# Altium integrated library Diodes - TVS.IntLib: 5379 symbols (part 64 of 122)
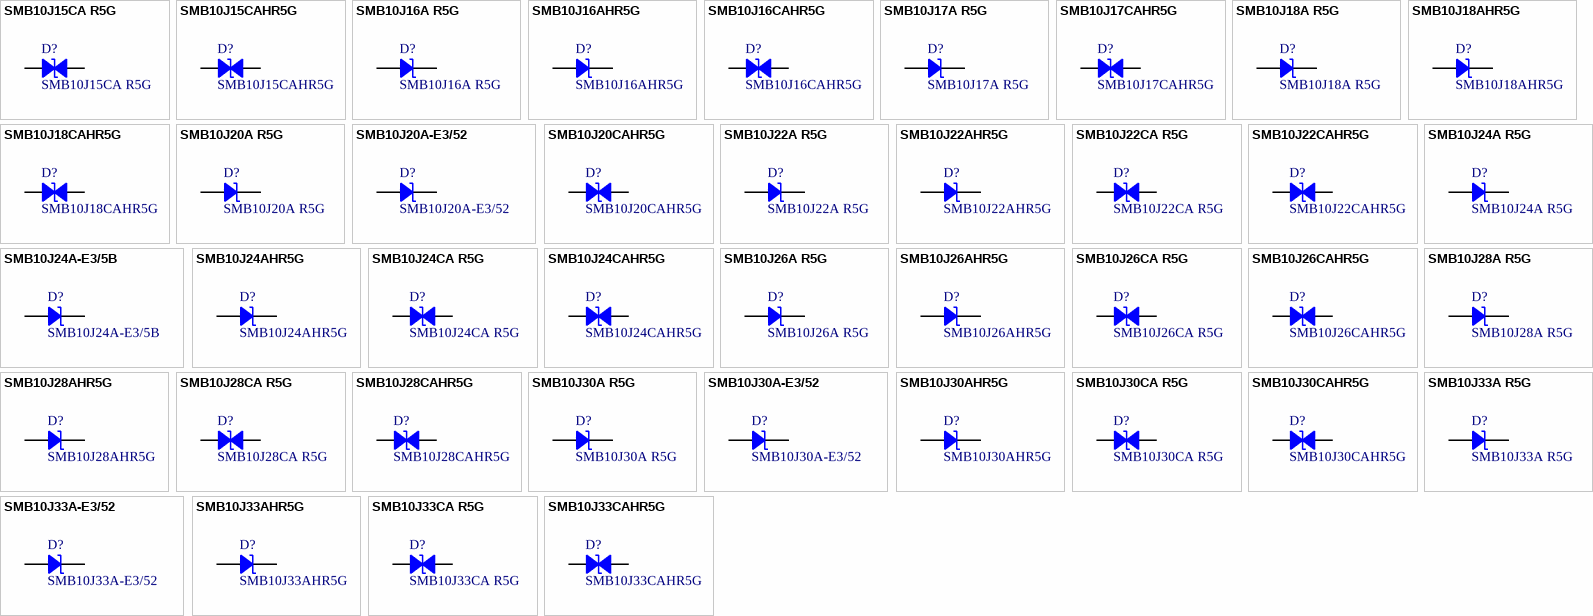
[diagram p197: symbols SMB10J15CA R5G to SMB10J33CAHR5G]

## SMB10J26AHR5G
designator D?
TVS DIODE 26V 42.1V DO214AA; Manufacturer: Taiwan Semiconductor Corporation; Current - Peak Pulse (10/1000µs): 23.8A; Power Line Protection: No; Power - Peak Pulse: 1000W (1kW); Type: Zener; Unidirectional Channels: 1; Voltage - Breakdown (Min): 28.9V; Part Number: SMB10J26AHR5G; Applications: Automotive; ComponentLink1Description: Datasheet; ComponentLink1URL: https://www.taiwansemi.com/products/datasheet/SMB10J%20SERIES_A1511.pdf; ComponentLink2Description: DigiKey Link; ComponentLink2URL: http://digikey.com/product-detail/en/taiwan-semiconductor-corporation/SMB10J26AHR5G/SMB10J26AHR5GCT-ND/7358979; LastUpdated: 9/2/2020 1:19:51 AM; Lifecycle Status: Active; Minimum Order: 1; Mounting Type: Surface Mount; Operating Temperature: -55°C ~ 175°C (TJ); Package / Case: DO-214AA, SMB; Packaging: TapeAndReel; PartId: 11398; Part Status: Active; Price: 0.27; Series: Automotive, AEC-Q101, SMB10J; Supplier 1: DigiKey; Supplier Part Number 1: SMB10J26AHR5GCT-ND; Supplier Device Package: DO-214AA (SMB); Voltage - Clamping (Max) @ Ipp: 42.1V; Voltage - Reverse Standoff (Typ): 26V
footprint DO214AA SMB
pins: 1, 2

## SMB10J26CA R5G
designator D?
TVS DIODE 26V 42.1V DO214AA; Manufacturer: Taiwan Semiconductor Corporation; Bidirectional Channels: 1; Current - Peak Pulse (10/1000µs): 23.8A; Power Line Protection: No; Power - Peak Pulse: 1000W (1kW); Type: Zener; Voltage - Breakdown (Min): 28.9V; Part Number: SMB10J26CA R5G; Applications: General Purpose; ComponentLink1Description: Datasheet; ComponentLink1URL: https://www.taiwansemi.com/products/datasheet/SMB10J%20SERIES_A1511.pdf; ComponentLink2Description: DigiKey Link; ComponentLink2URL: http://digikey.com/product-detail/en/taiwan-semiconductor-corporation/SMB10J26CA-R5G/SMB10J26CAR5GCT-ND/7358982; LastUpdated: 9/2/2020 1:28:18 AM; Lifecycle Status: Active; Minimum Order: 1; Mounting Type: Surface Mount; Operating Temperature: -55°C ~ 175°C (TJ); Package / Case: DO-214AA, SMB; Packaging: TapeAndReel; PartId: 9179; Part Status: Active; Price: 0.30; Series: SMB10J; Supplier 1: DigiKey; Supplier Part Number 1: SMB10J26CAR5GCT-ND; Supplier Device Package: DO-214AA (SMB); Voltage - Clamping (Max) @ Ipp: 42.1V; Voltage - Reverse Standoff (Typ): 26V
footprint DO214AA SMB
pins: 1, 2

## SMB10J26CAHR5G
designator D?
TVS DIODE 26V 42.1V DO214AA; Manufacturer: Taiwan Semiconductor Corporation; Bidirectional Channels: 1; Current - Peak Pulse (10/1000µs): 23.8A; Power Line Protection: No; Power - Peak Pulse: 1000W (1kW); Type: Zener; Voltage - Breakdown (Min): 28.9V; Part Number: SMB10J26CAHR5G; Applications: Automotive; ComponentLink1Description: Datasheet; ComponentLink1URL: https://www.taiwansemi.com/products/datasheet/SMB10J%20SERIES_A1511.pdf; ComponentLink2Description: DigiKey Link; ComponentLink2URL: http://digikey.com/product-detail/en/taiwan-semiconductor-corporation/SMB10J26CAHR5G/SMB10J26CAHR5GCT-ND/7358985; LastUpdated: 9/2/2020 1:28:15 AM; Lifecycle Status: Active; Minimum Order: 1; Mounting Type: Surface Mount; Operating Temperature: -55°C ~ 175°C (TJ); Package / Case: DO-214AA, SMB; Packaging: TapeAndReel; PartId: 8824; Part Status: Active; Price: 0.30; Series: Automotive, AEC-Q101, SMB10J; Supplier 1: DigiKey; Supplier Part Number 1: SMB10J26CAHR5GCT-ND; Supplier Device Package: DO-214AA (SMB); Voltage - Clamping (Max) @ Ipp: 42.1V; Voltage - Reverse Standoff (Typ): 26V
footprint DO214AA SMB
pins: 1, 2

## SMB10J28A R5G
designator D?
TVS DIODE 28V 45.4V DO214AA; Manufacturer: Taiwan Semiconductor Corporation; Current - Peak Pulse (10/1000µs): 22A; Power Line Protection: No; Power - Peak Pulse: 1000W (1kW); Type: Zener; Unidirectional Channels: 1; Voltage - Breakdown (Min): 31.1V; Part Number: SMB10J28A R5G; Applications: General Purpose; ComponentLink1Description: Datasheet; ComponentLink1URL: https://www.taiwansemi.com/products/datasheet/SMB10J%20SERIES_A1511.pdf; ComponentLink2Description: DigiKey Link; ComponentLink2URL: http://digikey.com/product-detail/en/taiwan-semiconductor-corporation/SMB10J28A-R5G/SMB10J28AR5GCT-ND/7358988; LastUpdated: 9/2/2020 1:19:51 AM; Lifecycle Status: Active; Minimum Order: 1; Mounting Type: Surface Mount; Operating Temperature: -55°C ~ 175°C (TJ); Package / Case: DO-214AA, SMB; Packaging: TapeAndReel; PartId: 11307; Part Status: Active; Price: 0.24; Series: SMB10J; Supplier 1: DigiKey; Supplier Part Number 1: SMB10J28AR5GCT-ND; Supplier Device Package: DO-214AA (SMB); Voltage - Clamping (Max) @ Ipp: 45.4V; Voltage - Reverse Standoff (Typ): 28V
footprint DO214AA SMB
pins: 1, 2

## SMB10J28AHR5G
designator D?
TVS DIODE 28V 45.4V DO214AA; Manufacturer: Taiwan Semiconductor Corporation; Current - Peak Pulse (10/1000µs): 22A; Power Line Protection: No; Power - Peak Pulse: 1000W (1kW); Type: Zener; Unidirectional Channels: 1; Voltage - Breakdown (Min): 31.1V; Part Number: SMB10J28AHR5G; Applications: Automotive; ComponentLink1Description: Datasheet; ComponentLink1URL: https://www.taiwansemi.com/products/datasheet/SMB10J%20SERIES_A1511.pdf; ComponentLink2Description: DigiKey Link; ComponentLink2URL: http://digikey.com/product-detail/en/taiwan-semiconductor-corporation/SMB10J28AHR5G/SMB10J28AHR5GCT-ND/7358991; LastUpdated: 9/2/2020 1:19:50 AM; Lifecycle Status: Active; Minimum Order: 1; Mounting Type: Surface Mount; Operating Temperature: -55°C ~ 175°C (TJ); Package / Case: DO-214AA, SMB; Packaging: TapeAndReel; PartId: 11300; Part Status: Active; Price: 0.27; Series: Automotive, AEC-Q101, SMB10J; Supplier 1: DigiKey; Supplier Part Number 1: SMB10J28AHR5GCT-ND; Supplier Device Package: DO-214AA (SMB); Voltage - Clamping (Max) @ Ipp: 45.4V; Voltage - Reverse Standoff (Typ): 28V
footprint DO214AA SMB
pins: 1, 2

## SMB10J28CA R5G
designator D?
TVS DIODE 28V 45.4V DO214AA; Manufacturer: Taiwan Semiconductor Corporation; Bidirectional Channels: 1; Current - Peak Pulse (10/1000µs): 22A; Power Line Protection: No; Power - Peak Pulse: 1000W (1kW); Type: Zener; Voltage - Breakdown (Min): 31.1V; Part Number: SMB10J28CA R5G; Applications: General Purpose; ComponentLink1Description: Datasheet; ComponentLink1URL: https://www.taiwansemi.com/products/datasheet/SMB10J%20SERIES_A1511.pdf; ComponentLink2Description: DigiKey Link; ComponentLink2URL: http://digikey.com/product-detail/en/taiwan-semiconductor-corporation/SMB10J28CA-R5G/SMB10J28CAR5GCT-ND/7358994; LastUpdated: 9/2/2020 1:28:18 AM; Lifecycle Status: Active; Minimum Order: 1; Mounting Type: Surface Mount; Operating Temperature: -55°C ~ 175°C (TJ); Package / Case: DO-214AA, SMB; Packaging: TapeAndReel; PartId: 9182; Part Status: Active; Price: 0.30; Series: SMB10J; Supplier 1: DigiKey; Supplier Part Number 1: SMB10J28CAR5GCT-ND; Supplier Device Package: DO-214AA (SMB); Voltage - Clamping (Max) @ Ipp: 45.4V; Voltage - Reverse Standoff (Typ): 28V
footprint DO214AA SMB
pins: 1, 2

## SMB10J28CAHR5G
designator D?
TVS DIODE 28V 45.4V DO214AA; Manufacturer: Taiwan Semiconductor Corporation; Bidirectional Channels: 1; Current - Peak Pulse (10/1000µs): 22A; Power Line Protection: No; Power - Peak Pulse: 1000W (1kW); Type: Zener; Voltage - Breakdown (Min): 31.1V; Part Number: SMB10J28CAHR5G; Applications: Automotive; ComponentLink1Description: Datasheet; ComponentLink1URL: https://www.taiwansemi.com/products/datasheet/SMB10J%20SERIES_A1511.pdf; ComponentLink2Description: DigiKey Link; ComponentLink2URL: http://digikey.com/product-detail/en/taiwan-semiconductor-corporation/SMB10J28CAHR5G/SMB10J28CAHR5GCT-ND/7358997; LastUpdated: 9/2/2020 1:28:15 AM; Lifecycle Status: Active; Minimum Order: 1; Mounting Type: Surface Mount; Operating Temperature: -55°C ~ 175°C (TJ); Package / Case: DO-214AA, SMB; Packaging: TapeAndReel; PartId: 8820; Part Status: Active; Price: 0.30; Series: Automotive, AEC-Q101, SMB10J; Supplier 1: DigiKey; Supplier Part Number 1: SMB10J28CAHR5GCT-ND; Supplier Device Package: DO-214AA (SMB); Voltage - Clamping (Max) @ Ipp: 45.4V; Voltage - Reverse Standoff (Typ): 28V
footprint DO214AA SMB
pins: 1, 2

## SMB10J30A R5G
designator D?
TVS DIODE 30V 48.4V DO214AA; Manufacturer: Taiwan Semiconductor Corporation; Current - Peak Pulse (10/1000µs): 20.7A; Power Line Protection: No; Power - Peak Pulse: 1000W (1kW); Type: Zener; Unidirectional Channels: 1; Voltage - Breakdown (Min): 33.3V; Part Number: SMB10J30A R5G; Applications: General Purpose; ComponentLink1Description: Datasheet; ComponentLink1URL: https://www.taiwansemi.com/products/datasheet/SMB10J%20SERIES_A1511.pdf; ComponentLink2Description: DigiKey Link; ComponentLink2URL: http://digikey.com/product-detail/en/taiwan-semiconductor-corporation/SMB10J30A-R5G/SMB10J30AR5GCT-ND/7359000; LastUpdated: 9/2/2020 1:19:51 AM; Lifecycle Status: Active; Minimum Order: 1; Mounting Type: Surface Mount; Operating Temperature: -55°C ~ 175°C (TJ); Package / Case: DO-214AA, SMB; Packaging: TapeAndReel; PartId: 11306; Part Status: Active; Price: 0.24; Series: SMB10J; Supplier 1: DigiKey; Supplier Part Number 1: SMB10J30AR5GCT-ND; Supplier Device Package: DO-214AA (SMB); Voltage - Clamping (Max) @ Ipp: 48.4V; Voltage - Reverse Standoff (Typ): 30V
footprint DO214AA SMB
pins: 1, 2

## SMB10J30A-E3/52
designator D?
TVS DIODE 30V 48.4V DO214AA; Manufacturer: Vishay Semiconductor Diodes Division; Current - Peak Pulse (10/1000µs): 20.7A; Power Line Protection: No; Power - Peak Pulse: 1000W (1kW); Type: Zener; Unidirectional Channels: 1; Voltage - Breakdown (Min): 33.3V; Part Number: SMB10J30A-E3/52; Applications: General Purpose; ComponentLink1Description: Datasheet; ComponentLink1URL: http://www.vishay.com/docs/88422/smb10j5.pdf; ComponentLink2Description: DigiKey Link; ComponentLink2URL: http://digikey.com/product-detail/en/vishay-semiconductor-diodes-division/SMB10J30A-E3-52/SMB10J30A-E3-52GICT-ND/3711959; LastUpdated: 9/2/2020 1:19:51 AM; Lifecycle Status: Active; Minimum Order: 1; Mounting Type: Surface Mount; Operating Temperature: -55°C ~ 150°C (TJ); Package / Case: DO-214AA, SMB; Packaging: TapeAndReel; PartId: 11397; Part Status: Active; Price: 0.30; Series: TransZorb®; Supplier 1: DigiKey; Supplier Part Number 1: SMB10J30A-E3/52GICT-ND; Supplier Device Package: DO-214AA (SMB); Voltage - Clamping (Max) @ Ipp: 48.4V; Voltage - Reverse Standoff (Typ): 30V
footprint DO214AA SMB
pins: 1, 2

## SMB10J30AHR5G
designator D?
TVS DIODE 30V 48.4V DO214AA; Manufacturer: Taiwan Semiconductor Corporation; Current - Peak Pulse (10/1000µs): 20.7A; Power Line Protection: No; Power - Peak Pulse: 1000W (1kW); Type: Zener; Unidirectional Channels: 1; Voltage - Breakdown (Min): 33.3V; Part Number: SMB10J30AHR5G; Applications: Automotive; ComponentLink1Description: Datasheet; ComponentLink1URL: https://www.taiwansemi.com/products/datasheet/SMB10J%20SERIES_A1511.pdf; ComponentLink2Description: DigiKey Link; ComponentLink2URL: http://digikey.com/product-detail/en/taiwan-semiconductor-corporation/SMB10J30AHR5G/SMB10J30AHR5GCT-ND/7359003; LastUpdated: 9/2/2020 1:19:51 AM; Lifecycle Status: Active; Minimum Order: 1; Mounting Type: Surface Mount; Operating Temperature: -55°C ~ 175°C (TJ); Package / Case: DO-214AA, SMB; Packaging: TapeAndReel; PartId: 11399; Part Status: Active; Price: 0.27; Series: Automotive, AEC-Q101, SMB10J; Supplier 1: DigiKey; Supplier Part Number 1: SMB10J30AHR5GCT-ND; Supplier Device Package: DO-214AA (SMB); Voltage - Clamping (Max) @ Ipp: 48.4V; Voltage - Reverse Standoff (Typ): 30V
footprint DO214AA SMB
pins: 1, 2

## SMB10J30CA R5G
designator D?
TVS DIODE 30V 48.4V DO214AA; Manufacturer: Taiwan Semiconductor Corporation; Bidirectional Channels: 1; Current - Peak Pulse (10/1000µs): 20.7A; Power Line Protection: No; Power - Peak Pulse: 1000W (1kW); Type: Zener; Voltage - Breakdown (Min): 33.3V; Part Number: SMB10J30CA R5G; Applications: General Purpose; ComponentLink1Description: Datasheet; ComponentLink1URL: https://www.taiwansemi.com/products/datasheet/SMB10J%20SERIES_A1511.pdf; ComponentLink2Description: DigiKey Link; ComponentLink2URL: http://digikey.com/product-detail/en/taiwan-semiconductor-corporation/SMB10J30CA-R5G/SMB10J30CAR5GCT-ND/7359006; LastUpdated: 9/2/2020 1:28:18 AM; Lifecycle Status: Active; Minimum Order: 1; Mounting Type: Surface Mount; Operating Temperature: -55°C ~ 175°C (TJ); Package / Case: DO-214AA, SMB; Packaging: TapeAndReel; PartId: 9178; Part Status: Active; Price: 0.30; Series: SMB10J; Supplier 1: DigiKey; Supplier Part Number 1: SMB10J30CAR5GCT-ND; Supplier Device Package: DO-214AA (SMB); Voltage - Clamping (Max) @ Ipp: 48.4V; Voltage - Reverse Standoff (Typ): 30V
footprint DO214AA SMB
pins: 1, 2

## SMB10J30CAHR5G
designator D?
TVS DIODE 30V 48.4V DO214AA; Manufacturer: Taiwan Semiconductor Corporation; Bidirectional Channels: 1; Current - Peak Pulse (10/1000µs): 20.7A; Power Line Protection: No; Power - Peak Pulse: 1000W (1kW); Type: Zener; Voltage - Breakdown (Min): 33.3V; Part Number: SMB10J30CAHR5G; Applications: Automotive; ComponentLink1Description: Datasheet; ComponentLink1URL: https://www.taiwansemi.com/products/datasheet/SMB10J%20SERIES_A1511.pdf; ComponentLink2Description: DigiKey Link; ComponentLink2URL: http://digikey.com/product-detail/en/taiwan-semiconductor-corporation/SMB10J30CAHR5G/SMB10J30CAHR5GCT-ND/7359009; LastUpdated: 9/2/2020 1:28:22 AM; Lifecycle Status: Active; Minimum Order: 1; Mounting Type: Surface Mount; Operating Temperature: -55°C ~ 175°C (TJ); Package / Case: DO-214AA, SMB; Packaging: TapeAndReel; PartId: 9616; Part Status: Active; Price: 0.30; Series: Automotive, AEC-Q101, SMB10J; Supplier 1: DigiKey; Supplier Part Number 1: SMB10J30CAHR5GCT-ND; Supplier Device Package: DO-214AA (SMB); Voltage - Clamping (Max) @ Ipp: 48.4V; Voltage - Reverse Standoff (Typ): 30V
footprint DO214AA SMB
pins: 1, 2

## SMB10J33A R5G
designator D?
TVS DIODE 33V 53.3V DO214AA; Manufacturer: Taiwan Semiconductor Corporation; Current - Peak Pulse (10/1000µs): 18.8A; Power Line Protection: No; Power - Peak Pulse: 1000W (1kW); Type: Zener; Unidirectional Channels: 1; Voltage - Breakdown (Min): 36.7V; Part Number: SMB10J33A R5G; Applications: General Purpose; ComponentLink1Description: Datasheet; ComponentLink1URL: https://www.taiwansemi.com/products/datasheet/SMB10J%20SERIES_A1511.pdf; ComponentLink2Description: DigiKey Link; ComponentLink2URL: http://digikey.com/product-detail/en/taiwan-semiconductor-corporation/SMB10J33A-R5G/SMB10J33AR5GCT-ND/7359012; LastUpdated: 9/2/2020 1:19:51 AM; Lifecycle Status: Active; Minimum Order: 1; Mounting Type: Surface Mount; Operating Temperature: -55°C ~ 175°C (TJ); Package / Case: DO-214AA, SMB; Packaging: TapeAndReel; PartId: 11401; Part Status: Active; Price: 0.24; Series: SMB10J; Supplier 1: DigiKey; Supplier Part Number 1: SMB10J33AR5GCT-ND; Supplier Device Package: DO-214AA (SMB); Voltage - Clamping (Max) @ Ipp: 53.3V; Voltage - Reverse Standoff (Typ): 33V
footprint DO214AA SMB
pins: 1, 2

## SMB10J33A-E3/52
designator D?
TVS DIODE 33V 53.3V DO214AA; Manufacturer: Vishay Semiconductor Diodes Division; Current - Peak Pulse (10/1000µs): 18.8A; Power Line Protection: No; Power - Peak Pulse: 1000W (1kW); Type: Zener; Unidirectional Channels: 1; Voltage - Breakdown (Min): 36.7V; Part Number: SMB10J33A-E3/52; Applications: General Purpose; ComponentLink1Description: Datasheet; ComponentLink1URL: http://www.vishay.com/docs/88422/smb10j5.pdf; ComponentLink2Description: DigiKey Link; ComponentLink2URL: http://digikey.com/product-detail/en/vishay-semiconductor-diodes-division/SMB10J33A-E3-52/SMB10J33A-E3-52GICT-ND/9601029; LastUpdated: 9/2/2020 1:19:46 AM; Lifecycle Status: Active; Minimum Order: 1; Mounting Type: Surface Mount; Operating Temperature: -55°C ~ 150°C (TJ); Package / Case: DO-214AA, SMB; Packaging: TapeAndReel; PartId: 10818; Part Status: Active; Price: 0.30; Series: TransZorb®; Supplier 1: DigiKey; Supplier Part Number 1: SMB10J33A-E3/52GICT-ND; Supplier Device Package: DO-214AA (SMB); Voltage - Clamping (Max) @ Ipp: 53.3V; Voltage - Reverse Standoff (Typ): 33V
footprint DO214AA SMB
pins: 1, 2

## SMB10J33AHR5G
designator D?
TVS DIODE 33V 53.3V DO214AA; Manufacturer: Taiwan Semiconductor Corporation; Current - Peak Pulse (10/1000µs): 18.8A; Power Line Protection: No; Power - Peak Pulse: 1000W (1kW); Type: Zener; Unidirectional Channels: 1; Voltage - Breakdown (Min): 36.7V; Part Number: SMB10J33AHR5G; Applications: Automotive; ComponentLink1Description: Datasheet; ComponentLink1URL: https://www.taiwansemi.com/products/datasheet/SMB10J%20SERIES_A1511.pdf; ComponentLink2Description: DigiKey Link; ComponentLink2URL: http://digikey.com/product-detail/en/taiwan-semiconductor-corporation/SMB10J33AHR5G/SMB10J33AHR5GCT-ND/7359015; LastUpdated: 9/2/2020 1:19:50 AM; Lifecycle Status: Active; Minimum Order: 1; Mounting Type: Surface Mount; Operating Temperature: -55°C ~ 175°C (TJ); Package / Case: DO-214AA, SMB; Packaging: TapeAndReel; PartId: 11299; Part Status: Active; Price: 0.27; Series: Automotive, AEC-Q101, SMB10J; Supplier 1: DigiKey; Supplier Part Number 1: SMB10J33AHR5GCT-ND; Supplier Device Package: DO-214AA (SMB); Voltage - Clamping (Max) @ Ipp: 53.3V; Voltage - Reverse Standoff (Typ): 33V
footprint DO214AA SMB
pins: 1, 2

## SMB10J33CA R5G
designator D?
TVS DIODE 33V 53.3V DO214AA; Manufacturer: Taiwan Semiconductor Corporation; Bidirectional Channels: 1; Current - Peak Pulse (10/1000µs): 18.8A; Power Line Protection: No; Power - Peak Pulse: 1000W (1kW); Type: Zener; Voltage - Breakdown (Min): 36.7V; Part Number: SMB10J33CA R5G; Applications: General Purpose; ComponentLink1Description: Datasheet; ComponentLink1URL: https://www.taiwansemi.com/products/datasheet/SMB10J%20SERIES_A1511.pdf; ComponentLink2Description: DigiKey Link; ComponentLink2URL: http://digikey.com/product-detail/en/taiwan-semiconductor-corporation/SMB10J33CA-R5G/SMB10J33CAR5GCT-ND/7359018; LastUpdated: 9/2/2020 1:28:22 AM; Lifecycle Status: Active; Minimum Order: 1; Mounting Type: Surface Mount; Operating Temperature: -55°C ~ 175°C (TJ); Package / Case: DO-214AA, SMB; Packaging: TapeAndReel; PartId: 9677; Part Status: Active; Price: 0.30; Series: SMB10J; Supplier 1: DigiKey; Supplier Part Number 1: SMB10J33CAR5GCT-ND; Supplier Device Package: DO-214AA (SMB); Voltage - Clamping (Max) @ Ipp: 53.3V; Voltage - Reverse Standoff (Typ): 33V
footprint DO214AA SMB
pins: 1, 2

## SMB10J33CAHR5G
designator D?
TVS DIODE 33V 53.3V DO214AA; Manufacturer: Taiwan Semiconductor Corporation; Bidirectional Channels: 1; Current - Peak Pulse (10/1000µs): 18.8A; Power Line Protection: No; Power - Peak Pulse: 1000W (1kW); Type: Zener; Voltage - Breakdown (Min): 36.7V; Part Number: SMB10J33CAHR5G; Applications: Automotive; ComponentLink1Description: Datasheet; ComponentLink1URL: https://www.taiwansemi.com/products/datasheet/SMB10J%20SERIES_A1511.pdf; ComponentLink2Description: DigiKey Link; ComponentLink2URL: http://digikey.com/product-detail/en/taiwan-semiconductor-corporation/SMB10J33CAHR5G/SMB10J33CAHR5GCT-ND/7359021; LastUpdated: 9/2/2020 1:28:15 AM; Lifecycle Status: Active; Minimum Order: 1; Mounting Type: Surface Mount; Operating Temperature: -55°C ~ 175°C (TJ); Package / Case: DO-214AA, SMB; Packaging: TapeAndReel; PartId: 8819; Part Status: Active; Price: 0.30; Series: Automotive, AEC-Q101, SMB10J; Supplier 1: DigiKey; Supplier Part Number 1: SMB10J33CAHR5GCT-ND; Supplier Device Package: DO-214AA (SMB); Voltage - Clamping (Max) @ Ipp: 53.3V; Voltage - Reverse Standoff (Typ): 33V
footprint DO214AA SMB
pins: 1, 2

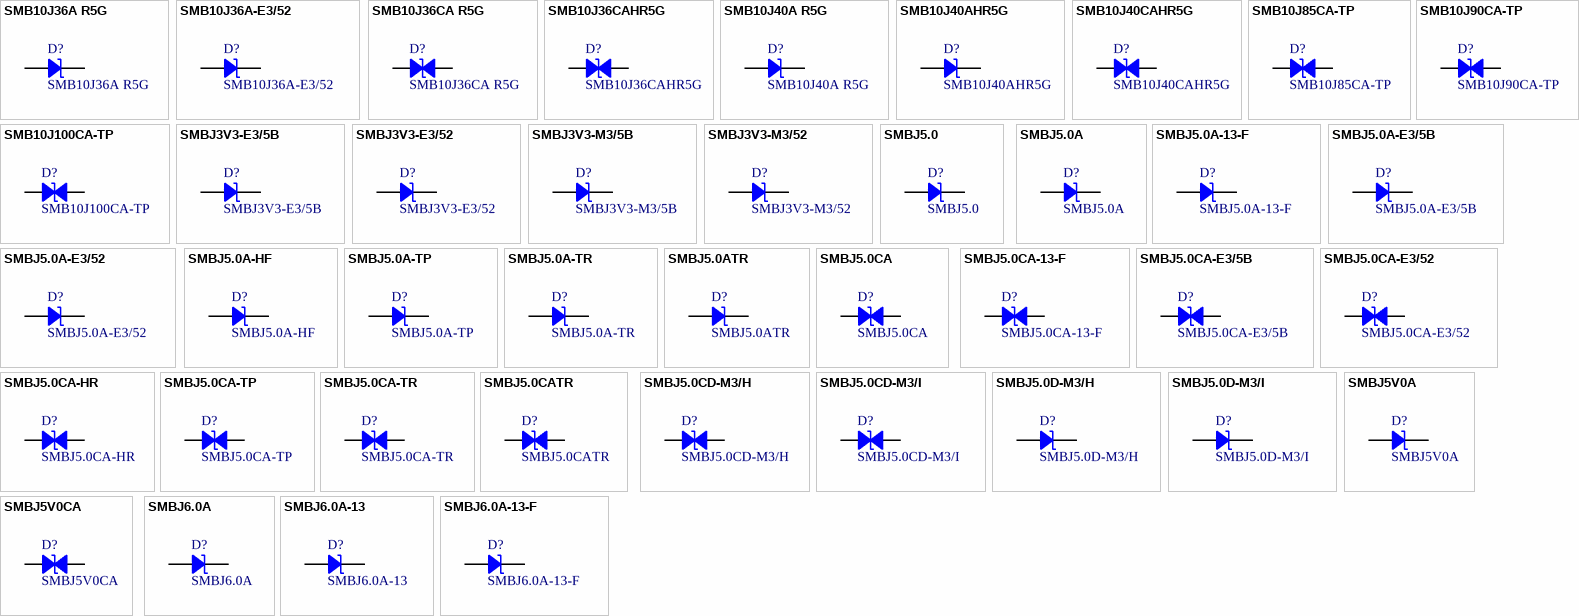
[diagram p70: symbols SMB10J36A R5G to SMBJ6.0A-13-F]

## SMB10J36A R5G
designator D?
TVS DIODE 36V 58.1V DO214AA; Manufacturer: Taiwan Semiconductor Corporation; Current - Peak Pulse (10/1000µs): 17.2A; Power Line Protection: No; Power - Peak Pulse: 1000W (1kW); Type: Zener; Unidirectional Channels: 1; Voltage - Breakdown (Min): 40V; Part Number: SMB10J36A R5G; Applications: General Purpose; ComponentLink1Description: Datasheet; ComponentLink1URL: https://www.taiwansemi.com/products/datasheet/SMB10J%20SERIES_A1511.pdf; ComponentLink2Description: DigiKey Link; ComponentLink2URL: http://digikey.com/product-detail/en/taiwan-semiconductor-corporation/SMB10J36A-R5G/SMB10J36AR5GCT-ND/7359024; LastUpdated: 9/2/2020 1:19:45 AM; Lifecycle Status: Active; Minimum Order: 1; Mounting Type: Surface Mount; Operating Temperature: -55°C ~ 175°C (TJ); Package / Case: DO-214AA, SMB; Packaging: TapeAndReel; PartId: 10782; Part Status: Active; Price: 0.24; Series: SMB10J; Supplier 1: DigiKey; Supplier Part Number 1: SMB10J36AR5GCT-ND; Supplier Device Package: DO-214AA (SMB); Voltage - Clamping (Max) @ Ipp: 58.1V; Voltage - Reverse Standoff (Typ): 36V
footprint DO214AA SMB
pins: 1, 2

## SMB10J36A-E3/52
designator D?
TVS DIODE 36V 58.1V DO214AA; Manufacturer: Vishay Semiconductor Diodes Division; Current - Peak Pulse (10/1000µs): 17.2A; Power Line Protection: No; Power - Peak Pulse: 1000W (1kW); Type: Zener; Unidirectional Channels: 1; Voltage - Breakdown (Min): 40V; Part Number: SMB10J36A-E3/52; Applications: General Purpose; ComponentLink1Description: Datasheet; ComponentLink1URL: http://www.vishay.com/docs/88422/smb10j5.pdf; ComponentLink2Description: DigiKey Link; ComponentLink2URL: http://digikey.com/product-detail/en/vishay-semiconductor-diodes-division/SMB10J36A-E3-52/SMB10J36A-E3-52GICT-ND/9601030; LastUpdated: 9/2/2020 1:19:46 AM; Lifecycle Status: Active; Minimum Order: 1; Mounting Type: Surface Mount; Operating Temperature: -55°C ~ 150°C (TJ); Package / Case: DO-214AA, SMB; Packaging: TapeAndReel; PartId: 10817; Part Status: Active; Price: 0.30; Series: TransZorb®; Supplier 1: DigiKey; Supplier Part Number 1: SMB10J36A-E3/52GICT-ND; Supplier Device Package: DO-214AA (SMB); Voltage - Clamping (Max) @ Ipp: 58.1V; Voltage - Reverse Standoff (Typ): 36V
footprint DO214AA SMB
pins: 1, 2

## SMB10J36CA R5G
designator D?
TVS DIODE 36V 58.1V DO214AA; Manufacturer: Taiwan Semiconductor Corporation; Bidirectional Channels: 1; Current - Peak Pulse (10/1000µs): 17.2A; Power Line Protection: No; Power - Peak Pulse: 1000W (1kW); Type: Zener; Voltage - Breakdown (Min): 40V; Part Number: SMB10J36CA R5G; Applications: General Purpose; ComponentLink1Description: Datasheet; ComponentLink1URL: https://www.taiwansemi.com/products/datasheet/SMB10J%20SERIES_A1511.pdf; ComponentLink2Description: DigiKey Link; ComponentLink2URL: http://digikey.com/product-detail/en/taiwan-semiconductor-corporation/SMB10J36CA-R5G/SMB10J36CAR5GCT-ND/7359030; LastUpdated: 9/2/2020 1:28:18 AM; Lifecycle Status: Active; Minimum Order: 1; Mounting Type: Surface Mount; Operating Temperature: -55°C ~ 175°C (TJ); Package / Case: DO-214AA, SMB; Packaging: TapeAndReel; PartId: 9181; Part Status: Active; Price: 0.30; Series: SMB10J; Supplier 1: DigiKey; Supplier Part Number 1: SMB10J36CAR5GCT-ND; Supplier Device Package: DO-214AA (SMB); Voltage - Clamping (Max) @ Ipp: 58.1V; Voltage - Reverse Standoff (Typ): 36V
footprint DO214AA SMB
pins: 1, 2

## SMB10J36CAHR5G
designator D?
TVS DIODE 36V 58.1V DO214AA; Manufacturer: Taiwan Semiconductor Corporation; Bidirectional Channels: 1; Current - Peak Pulse (10/1000µs): 17.2A; Power Line Protection: No; Power - Peak Pulse: 1000W (1kW); Type: Zener; Voltage - Breakdown (Min): 40V; Part Number: SMB10J36CAHR5G; Applications: Automotive; ComponentLink1Description: Datasheet; ComponentLink1URL: https://www.taiwansemi.com/products/datasheet/SMB10J%20SERIES_A1511.pdf; ComponentLink2Description: DigiKey Link; ComponentLink2URL: http://digikey.com/product-detail/en/taiwan-semiconductor-corporation/SMB10J36CAHR5G/SMB10J36CAHR5GCT-ND/7359033; LastUpdated: 9/2/2020 1:28:21 AM; Lifecycle Status: Active; Minimum Order: 1; Mounting Type: Surface Mount; Operating Temperature: -55°C ~ 175°C (TJ); Package / Case: DO-214AA, SMB; Packaging: TapeAndReel; PartId: 9580; Part Status: Active; Price: 0.30; Series: Automotive, AEC-Q101, SMB10J; Supplier 1: DigiKey; Supplier Part Number 1: SMB10J36CAHR5GCT-ND; Supplier Device Package: DO-214AA (SMB); Voltage - Clamping (Max) @ Ipp: 58.1V; Voltage - Reverse Standoff (Typ): 36V
footprint DO214AA SMB
pins: 1, 2

## SMB10J40A R5G
designator D?
TVS DIODE 40V 64.5V DO214AA; Manufacturer: Taiwan Semiconductor Corporation; Current - Peak Pulse (10/1000µs): 15.5A; Power Line Protection: No; Power - Peak Pulse: 1000W (1kW); Type: Zener; Unidirectional Channels: 1; Voltage - Breakdown (Min): 44.4V; Part Number: SMB10J40A R5G; Applications: General Purpose; ComponentLink1Description: Datasheet; ComponentLink1URL: https://www.taiwansemi.com/products/datasheet/SMB10J%20SERIES_A1511.pdf; ComponentLink2Description: DigiKey Link; ComponentLink2URL: http://digikey.com/product-detail/en/taiwan-semiconductor-corporation/SMB10J40A-R5G/SMB10J40AR5GCT-ND/7359036; LastUpdated: 9/2/2020 1:19:45 AM; Lifecycle Status: Active; Minimum Order: 1; Mounting Type: Surface Mount; Operating Temperature: -55°C ~ 175°C (TJ); Package / Case: DO-214AA, SMB; Packaging: TapeAndReel; PartId: 10776; Part Status: Active; Price: 0.24; Series: SMB10J; Supplier 1: DigiKey; Supplier Part Number 1: SMB10J40AR5GCT-ND; Supplier Device Package: DO-214AA (SMB); Voltage - Clamping (Max) @ Ipp: 64.5V; Voltage - Reverse Standoff (Typ): 40V
footprint DO214AA SMB
pins: 1, 2

## SMB10J40AHR5G
designator D?
TVS DIODE 40V 64.5V DO214AA; Manufacturer: Taiwan Semiconductor Corporation; Current - Peak Pulse (10/1000µs): 15.5A; Power Line Protection: No; Power - Peak Pulse: 1000W (1kW); Type: Zener; Unidirectional Channels: 1; Voltage - Breakdown (Min): 44.4V; Part Number: SMB10J40AHR5G; Applications: Automotive; ComponentLink1Description: Datasheet; ComponentLink1URL: https://www.taiwansemi.com/products/datasheet/SMB10J%20SERIES_A1511.pdf; ComponentLink2Description: DigiKey Link; ComponentLink2URL: http://digikey.com/product-detail/en/taiwan-semiconductor-corporation/SMB10J40AHR5G/SMB10J40AHR5GCT-ND/7359039; LastUpdated: 9/2/2020 1:19:43 AM; Lifecycle Status: Active; Minimum Order: 1; Mounting Type: Surface Mount; Operating Temperature: -55°C ~ 175°C (TJ); Package / Case: DO-214AA, SMB; Packaging: TapeAndReel; PartId: 10536; Part Status: Active; Price: 0.27; Series: Automotive, AEC-Q101, SMB10J; Supplier 1: DigiKey; Supplier Part Number 1: SMB10J40AHR5GCT-ND; Supplier Device Package: DO-214AA (SMB); Voltage - Clamping (Max) @ Ipp: 64.5V; Voltage - Reverse Standoff (Typ): 40V
footprint DO214AA SMB
pins: 1, 2

## SMB10J40CAHR5G
designator D?
TVS DIODE 40V 64.5V DO214AA; Manufacturer: Taiwan Semiconductor Corporation; Bidirectional Channels: 1; Current - Peak Pulse (10/1000µs): 15.5A; Power Line Protection: No; Power - Peak Pulse: 1000W (1kW); Type: Zener; Voltage - Breakdown (Min): 44.4V; Part Number: SMB10J40CAHR5G; Applications: Automotive; ComponentLink1Description: Datasheet; ComponentLink1URL: https://www.taiwansemi.com/products/datasheet/SMB10J%20SERIES_A1511.pdf; ComponentLink2Description: DigiKey Link; ComponentLink2URL: http://digikey.com/product-detail/en/taiwan-semiconductor-corporation/SMB10J40CAHR5G/SMB10J40CAHR5GCT-ND/7359045; LastUpdated: 9/2/2020 1:28:16 AM; Lifecycle Status: Active; Minimum Order: 1; Mounting Type: Surface Mount; Operating Temperature: -55°C ~ 175°C (TJ); Package / Case: DO-214AA, SMB; Packaging: TapeAndReel; PartId: 8912; Part Status: Active; Price: 0.30; Series: Automotive, AEC-Q101, SMB10J; Supplier 1: DigiKey; Supplier Part Number 1: SMB10J40CAHR5GCT-ND; Supplier Device Package: DO-214AA (SMB); Voltage - Clamping (Max) @ Ipp: 64.5V; Voltage - Reverse Standoff (Typ): 40V
footprint DO214AA SMB
pins: 1, 2

## SMB10J85CA-TP
designator D?
1000W TVS, SMB; Manufacturer: Micro Commercial Co; Bidirectional Channels: 1; Current - Peak Pulse (10/1000µs): 7.3A; Power Line Protection: No; Power - Peak Pulse: 1000W (1kW); Type: Zener; Voltage - Breakdown (Min): 94.4V; Voltage - Clamping (Max) @ Ipp: 137V; Voltage - Reverse Standoff (Typ): 85V; Part Number: SMB10J85CA-TP; Applications: General Purpose; ComponentLink2Description: DigiKey Link; ComponentLink2URL: http://digikey.com/product-detail/en/micro-commercial-co/SMB10J85CA-TP/353-SMB10J85CA-TPCT-ND/12177388; LastUpdated: 8/30/2020 9:07:43 PM; Lifecycle Status: Active; Minimum Order: 1; Mounting Type: Surface Mount; Package / Case: DO-214AA, SMB; Packaging: Unknown; PartId: 11483; Price: 0.18; Supplier 1: DigiKey; Supplier Part Number 1: 353-SMB10J85CA-TPCT-ND; Supplier Device Package: DO-214AA (SMB)
footprint DO214AA SMB
pins: 1, 2

## SMB10J90CA-TP
designator D?
1000W TVS, SMB; Manufacturer: Micro Commercial Co; Bidirectional Channels: 1; Current - Peak Pulse (10/1000µs): 6.85A; Power Line Protection: No; Power - Peak Pulse: 1000W (1kW); Type: Zener; Voltage - Breakdown (Min): 100V; Voltage - Clamping (Max) @ Ipp: 146V; Voltage - Reverse Standoff (Typ): 90V; Part Number: SMB10J90CA-TP; Applications: General Purpose; ComponentLink2Description: DigiKey Link; ComponentLink2URL: http://digikey.com/product-detail/en/micro-commercial-co/SMB10J90CA-TP/353-SMB10J90CA-TPCT-ND/12177252; LastUpdated: 8/30/2020 9:07:43 PM; Lifecycle Status: Active; Minimum Order: 1; Mounting Type: Surface Mount; Package / Case: DO-214AA, SMB; Packaging: Unknown; PartId: 11486; Price: 0.18; Supplier 1: DigiKey; Supplier Part Number 1: 353-SMB10J90CA-TPCT-ND; Supplier Device Package: DO-214AA (SMB)
footprint DO214AA SMB
pins: 1, 2

## SMB10J100CA-TP
designator D?
1000W TVS, SMB; Manufacturer: Micro Commercial Co; Bidirectional Channels: 1; Current - Peak Pulse (10/1000µs): 6.17A; Power Line Protection: No; Power - Peak Pulse: 1000W (1kW); Type: Zener; Voltage - Breakdown (Min): 111V; Voltage - Clamping (Max) @ Ipp: 162V; Voltage - Reverse Standoff (Typ): 100V; Part Number: SMB10J100CA-TP; Applications: General Purpose; ComponentLink2Description: DigiKey Link; ComponentLink2URL: http://digikey.com/product-detail/en/micro-commercial-co/SMB10J100CA-TP/353-SMB10J100CA-TPCT-ND/12177259; LastUpdated: 8/30/2020 9:07:43 PM; Lifecycle Status: Active; Minimum Order: 1; Mounting Type: Surface Mount; Package / Case: DO-214AA, SMB; Packaging: Unknown; PartId: 11484; Price: 0.18; Supplier 1: DigiKey; Supplier Part Number 1: 353-SMB10J100CA-TPCT-ND; Supplier Device Package: DO-214AA (SMB)
footprint DO214AA SMB
pins: 1, 2

## SMBJ3V3-E3/5B
designator D?
TVS DIODE 3.3V 10.3V DO214AA; Manufacturer: Vishay Semiconductor Diodes Division; Capacitance @ Frequency: 5200pF @ 1MHz; Current - Peak Pulse (10/1000µs): 200A (8/20µs); Power Line Protection: No; Power - Peak Pulse: 600W; Type: Zener; Unidirectional Channels: 1; Voltage - Breakdown (Min): 4.1V; Part Number: SMBJ3V3-E3/5B; Applications: General Purpose; ComponentLink1Description: Datasheet; ComponentLink1URL: http://www.vishay.com/docs/88940/smbj3v3.pdf; ComponentLink2Description: DigiKey Link; ComponentLink2URL: http://digikey.com/product-detail/en/vishay-semiconductor-diodes-division/SMBJ3V3-E3-5B/SMBJ3V3-E3-5BGICT-ND/9601081; LastUpdated: 9/2/2020 1:19:47 AM; Lifecycle Status: Active; Minimum Order: 1; Mounting Type: Surface Mount; Operating Temperature: -65°C ~ 175°C (TJ); Package / Case: DO-214AA, SMB; Packaging: TapeAndReel; PartId: 10915; Part Status: Active; Price: 0.12; Series: TransZorb®; Supplier 1: DigiKey; Supplier Part Number 1: SMBJ3V3-E3/5BGICT-ND; Supplier Device Package: DO-214AA (SMBJ); Voltage - Clamping (Max) @ Ipp: 10.3V; Voltage - Reverse Standoff (Typ): 3.3V
footprint DO214AA SMB
pins: 1, 2

## SMBJ3V3-E3/52
designator D?
TVS DIODE 3.3V 10.3V DO214AA; Manufacturer: Vishay Semiconductor Diodes Division; Capacitance @ Frequency: 5200pF @ 1MHz; Current - Peak Pulse (10/1000µs): 200A (8/20µs); Power Line Protection: No; Power - Peak Pulse: 600W; Type: Zener; Unidirectional Channels: 1; Voltage - Breakdown (Min): 4.1V; Part Number: SMBJ3V3-E3/52; Applications: General Purpose; ComponentLink1Description: Datasheet; ComponentLink1URL: http://www.vishay.com/docs/88940/smbj3v3.pdf; ComponentLink2Description: DigiKey Link; ComponentLink2URL: http://digikey.com/product-detail/en/vishay-semiconductor-diodes-division/SMBJ3V3-E3-52/SMBJ3V3-E3-52GICT-ND/1147834; LastUpdated: 9/2/2020 1:19:47 AM; Lifecycle Status: Active; Minimum Order: 1; Mounting Type: Surface Mount; Operating Temperature: -65°C ~ 175°C (TJ); Package / Case: DO-214AA, SMB; Packaging: TapeAndReel; PartId: 10911; Part Status: Active; Price: 0.19; Series: TransZorb®; Supplier 1: DigiKey; Supplier Part Number 1: SMBJ3V3-E3/52GICT-ND; Supplier Device Package: DO-214AA (SMBJ); Voltage - Clamping (Max) @ Ipp: 10.3V; Voltage - Reverse Standoff (Typ): 3.3V
footprint DO214AA SMB
pins: 1, 2

## SMBJ3V3-M3/5B
designator D?
TVS DIODE 3.3V DO214AA; Manufacturer: Vishay Semiconductor Diodes Division; Power Line Protection: No; Power - Peak Pulse: 600W; Type: Zener; Unidirectional Channels: 1; Part Number: SMBJ3V3-M3/5B; Applications: General Purpose; ComponentLink1Description: Datasheet; ComponentLink1URL: https://www.vishay.com/docs/88940/smbj3v3.pdf; ComponentLink2Description: DigiKey Link; ComponentLink2URL: http://digikey.com/product-detail/en/vishay-semiconductor-diodes-division/SMBJ3V3-M3-5B/SMBJ3V3-M3-5BGICT-ND/9601082; LastUpdated: 9/2/2020 1:19:46 AM; Lifecycle Status: Active; Minimum Order: 1; Mounting Type: Surface Mount; Operating Temperature: -65°C ~ 175°C (TJ); Package / Case: DO-214AA, SMB; Packaging: TapeAndReel; PartId: 10822; Part Status: Active; Price: 0.24; Series: TransZorb®; Supplier 1: DigiKey; Supplier Part Number 1: SMBJ3V3-M3/5BGICT-ND; Supplier Device Package: DO-214AA (SMBJ); Voltage - Reverse Standoff (Typ): 3.3V
footprint DO214AA SMB
pins: 1, 2

## SMBJ3V3-M3/52
designator D?
TVS DIODE 3.3VWM - DO-215AA; Manufacturer: Vishay Semiconductor Diodes Division; Power Line Protection: No; Power - Peak Pulse: 600W; Type: Zener; Unidirectional Channels: 1; Voltage - Reverse Standoff (Typ): 3.3V; Part Number: SMBJ3V3-M3/52; Applications: General Purpose; ComponentLink1Description: Datasheet; ComponentLink1URL: https://www.vishay.com/docs/88940/smbj3v3.pdf; ComponentLink2Description: DigiKey Link; ComponentLink2URL: http://digikey.com/product-detail/en/vishay-semiconductor-diodes-division/SMBJ3V3-M3-52/SMBJ3V3-M3-52GICT-ND/8565225; LastUpdated: 9/2/2020 1:19:46 AM; Lifecycle Status: Active; Minimum Order: 1; Mounting Type: Surface Mount; Operating Temperature: -65°C ~ 175°C (TJ); Package / Case: DO-214AA, SMB; Packaging: TapeAndReel; PartId: 10816; Part Status: Active; Price: 0.30; Series: TransZorb®; Supplier 1: DigiKey; Supplier Part Number 1: SMBJ3V3-M3/52GICT-ND; Supplier Device Package: DO-214AA (SMBJ)
footprint DO214AA SMB
pins: 1, 2

## SMBJ5.0
designator D?
TVS DIODE 5V 9.66V DO214AA; Manufacturer: Littelfuse Inc.; Current - Peak Pulse (10/1000µs): 65.3A; Power Line Protection: No; Power - Peak Pulse: 600W; Type: Zener; Unidirectional Channels: 1; Voltage - Breakdown (Min): 6.03V; Part Number: SMBJ5.0; Applications: General Purpose; ComponentLink1Description: Datasheet; ComponentLink1URL: https://www.littelfuse.com/~/media/electronics/datasheets/tvs_diodes/littelfuse_tvs_diode_smbj_datasheet.pdf.pdf; ComponentLink2Description: DigiKey Link; ComponentLink2URL: http://digikey.com/product-detail/en/littelfuse-inc/SMBJ5.0/F5679CT-ND/3307069; LastUpdated: 9/2/2020 1:19:50 AM; Lifecycle Status: Active; Minimum Order: 1; Mounting Type: Surface Mount; Operating Temperature: -65°C ~ 150°C (TJ); Package / Case: DO-214AA, SMB; Packaging: TapeAndReel; PartId: 11288; Part Status: Active; Price: 0.14; Series: SMBJ; Supplier 1: DigiKey; Supplier Part Number 1: F5679CT-ND; Supplier Device Package: DO-214AA (SMBJ); Voltage - Clamping (Max) @ Ipp: 9.66V; Voltage - Reverse Standoff (Typ): 5V
footprint DO214AA SMB
pins: 1, 2

## SMBJ5.0A
designator D?
TVS DIODE 5V 9.2V DO214AA; Manufacturer: Littelfuse Inc.; Current - Peak Pulse (10/1000µs): 65.3A; Power Line Protection: No; Power - Peak Pulse: 600W; Type: Zener; Unidirectional Channels: 1; Voltage - Breakdown (Min): 6.4V; Part Number: SMBJ5.0A; Applications: General Purpose; ComponentLink1Description: Datasheet; ComponentLink1URL: https://www.littelfuse.com/~/media/electronics/datasheets/tvs_diodes/littelfuse_tvs_diode_smbj_datasheet.pdf.pdf; ComponentLink2Description: DigiKey Link; ComponentLink2URL: http://digikey.com/product-detail/en/littelfuse-inc/SMBJ5.0A/SMBJ5.0ALFCT-ND/285951; LastUpdated: 9/2/2020 1:19:45 AM; Lifecycle Status: Active; Minimum Order: 1; Mounting Type: Surface Mount; Operating Temperature: -65°C ~ 150°C (TJ); Package / Case: DO-214AA, SMB; Packaging: TapeAndReel; PartId: 10743; Part Status: Active; Price: 0.10; Series: SMBJ; Supplier 1: DigiKey; Supplier Part Number 1: SMBJ5.0ALFCT-ND; Supplier Device Package: DO-214AA (SMBJ); Voltage - Clamping (Max) @ Ipp: 9.2V; Voltage - Reverse Standoff (Typ): 5V
footprint DO214AA SMB
pins: 1, 2

## SMBJ5.0A-13-F
designator D?
TVS DIODE 5V 9.2V SMB; Manufacturer: Diodes Incorporated; Current - Peak Pulse (10/1000µs): 65.2A; Power Line Protection: No; Power - Peak Pulse: 600W; Type: Zener; Unidirectional Channels: 1; Voltage - Breakdown (Min): 6.4V; Part Number: SMBJ5.0A-13-F; Applications: General Purpose; ComponentLink1Description: Datasheet; ComponentLink1URL: https://www.diodes.com/assets/Datasheets/ds19002.pdf; ComponentLink2Description: DigiKey Link; ComponentLink2URL: http://digikey.com/product-detail/en/diodes-incorporated/SMBJ5.0A-13-F/SMBJ5.0A-FDICT-ND/725077; LastUpdated: 9/2/2020 1:19:46 AM; Lifecycle Status: Active; Minimum Order: 1; Mounting Type: Surface Mount; Operating Temperature: -55°C ~ 150°C (TJ); Package / Case: DO-214AA, SMB; Packaging: TapeAndReel; PartId: 10828; Part Status: Active; Price: 0.09; Series: SMBJ; Supplier 1: DigiKey; Supplier Part Number 1: SMBJ5.0A-FDICT-ND; Supplier Device Package: SMB; Voltage - Clamping (Max) @ Ipp: 9.2V; Voltage - Reverse Standoff (Typ): 5V
footprint DO214AA SMB
pins: 1, 2

## SMBJ5.0A-E3/5B
designator D?
TVS DIODE 5V 9.2V DO214AA; Manufacturer: Vishay Semiconductor Diodes Division; Current - Peak Pulse (10/1000µs): 65.2A; Power Line Protection: No; Power - Peak Pulse: 600W; Type: Zener; Unidirectional Channels: 1; Voltage - Breakdown (Min): 6.4V; Part Number: SMBJ5.0A-E3/5B; Applications: General Purpose; ComponentLink1Description: Datasheet; ComponentLink1URL: http://www.vishay.com/docs/88392/smbj.pdf; ComponentLink2Description: DigiKey Link; ComponentLink2URL: http://digikey.com/product-detail/en/vishay-semiconductor-diodes-division/SMBJ5.0A-E3-5B/SMBJ5.0A-E3-5BGICT-ND/3847573; LastUpdated: 9/2/2020 1:19:48 AM; Lifecycle Status: Active; Minimum Order: 1; Mounting Type: Surface Mount; Operating Temperature: -55°C ~ 150°C (TJ); Package / Case: DO-214AA, SMB; Packaging: TapeAndReel; PartId: 10986; Part Status: Active; Price: 0.11; Series: TransZorb®; Supplier 1: DigiKey; Supplier Part Number 1: SMBJ5.0A-E3/5BGICT-ND; Supplier Device Package: DO-214AA (SMBJ); Voltage - Clamping (Max) @ Ipp: 9.2V; Voltage - Reverse Standoff (Typ): 5V
footprint DO214AA SMB
pins: 1, 2

## SMBJ5.0A-E3/52
designator D?
TVS DIODE 5V 9.2V DO214AA; Manufacturer: Vishay Semiconductor Diodes Division; Current - Peak Pulse (10/1000µs): 65.2A; Power Line Protection: No; Power - Peak Pulse: 600W; Type: Zener; Unidirectional Channels: 1; Voltage - Breakdown (Min): 6.4V; Part Number: SMBJ5.0A-E3/52; Applications: General Purpose; ComponentLink1Description: Datasheet; ComponentLink1URL: http://www.vishay.com/docs/88392/smbj.pdf; ComponentLink2Description: DigiKey Link; ComponentLink2URL: http://digikey.com/product-detail/en/vishay-semiconductor-diodes-division/SMBJ5.0A-E3-52/SMBJ5.0A-E3-52GICT-ND/1091651; LastUpdated: 9/2/2020 1:19:51 AM; Lifecycle Status: Active; Minimum Order: 1; Mounting Type: Surface Mount; Operating Temperature: -55°C ~ 150°C (TJ); Package / Case: DO-214AA, SMB; Packaging: TapeAndReel; PartId: 11405; Part Status: Active; Price: 0.15; Series: TransZorb®; Supplier 1: DigiKey; Supplier Part Number 1: SMBJ5.0A-E3/52GICT-ND; Supplier Device Package: DO-214AA (SMBJ); Voltage - Clamping (Max) @ Ipp: 9.2V; Voltage - Reverse Standoff (Typ): 5V
footprint DO214AA SMB
pins: 1, 2

## SMBJ5.0A-HF
designator D?
DIODE TVS 5V 600W SMB UNI-DIR; Manufacturer: Comchip Technology; Current - Peak Pulse (10/1000µs): 65.2A; Power Line Protection: No; Type: Zener; Unidirectional Channels: 1; Voltage - Breakdown (Min): 6.4V; Voltage - Clamping (Max) @ Ipp: 9.2V; Part Number: SMBJ5.0A-HF; Applications: General Purpose; ComponentLink1Description: Datasheet; ComponentLink1URL: http://www.comchiptech.com/admin/files/product/20190409161655.PDF; ComponentLink2Description: DigiKey Link; ComponentLink2URL: http://digikey.com/product-detail/en/comchip-technology/SMBJ5.0A-HF/641-2111-1-ND/10223582; LastUpdated: 9/2/2020 1:19:51 AM; Lifecycle Status: Active; Minimum Order: 1; Mounting Type: Surface Mount; Operating Temperature: -55°C ~ 150°C (TJ); Package / Case: DO-214AA, SMB; Packaging: TapeAndReel; PartId: 11367; Part Status: Active; Power - Peak Pulse: 600W; Price: 0.09; Series: -; Supplier 1: DigiKey; Supplier Part Number 1: 641-2111-1-ND; Supplier Device Package: DO-214AA (SMB); Voltage - Reverse Standoff (Typ): 5V
footprint DO214AA SMB
pins: 1, 2

## SMBJ5.0A-TP
designator D?
TVS DIODE 5V 9.2V DO214AA; Manufacturer: Micro Commercial Co; Current - Peak Pulse (10/1000µs): 65.2A; Power Line Protection: No; Power - Peak Pulse: 600W; Type: Zener; Unidirectional Channels: 1; Voltage - Breakdown (Min): 6.4V; Part Number: SMBJ5.0A-TP; Applications: General Purpose; ComponentLink1Description: Datasheet; ComponentLink1URL: https://www.mccsemi.com/pdf/Products/SMBJ5.0-SMBJ440CA(DO-214AA).pdf; ComponentLink2Description: DigiKey Link; ComponentLink2URL: http://digikey.com/product-detail/en/micro-commercial-co/SMBJ5.0A-TP/SMBJ5.0A-TPMSCT-ND/1200634; LastUpdated: 9/2/2020 1:19:50 AM; Lifecycle Status: Active; Minimum Order: 1; Mounting Type: Surface Mount; Operating Temperature: -55°C ~ 175°C (TJ); Package / Case: DO-214AA, SMB; Packaging: TapeAndReel; PartId: 11229; Part Status: Active; Price: 0.10; Series: -; Supplier 1: DigiKey; Supplier Part Number 1: SMBJ5.0A-TPMSCT-ND; Supplier Device Package: DO-214AA (SMB); Voltage - Clamping (Max) @ Ipp: 9.2V; Voltage - Reverse Standoff (Typ): 5V
footprint DO214AA SMB
pins: 1, 2

## SMBJ5.0A-TR
designator D?
TVS DIODE 5V 13.4V SMB; Manufacturer: STMicroelectronics; Current - Peak Pulse (10/1000µs): 68A; Power Line Protection: No; Power - Peak Pulse: 600W; Type: Zener; Unidirectional Channels: 1; Voltage - Breakdown (Min): 6.4V; Voltage - Clamping (Max) @ Ipp: 9.2V; Part Number: SMBJ5.0A-TR; Applications: General Purpose; ComponentLink1Description: Datasheet; ComponentLink1URL: http://www.st.com/content/ccc/resource/technical/document/datasheet/19/78/91/39/07/cd/40/65/CD00001366.pdf/files/CD00001366.pdf/_jcr_content/translations/en.CD00001366.pdf; ComponentLink2Description: DigiKey Link; ComponentLink2URL: http://digikey.com/product-detail/en/stmicroelectronics/SMBJ5.0A-TR/497-3144-1-ND/654464; LastUpdated: 9/2/2020 1:19:50 AM; Lifecycle Status: Active; Minimum Order: 1; Mounting Type: Surface Mount; Operating Temperature: -55°C ~ 150°C (TJ); Package / Case: DO-214AA, SMB; Packaging: TapeAndReel; PartId: 11227; Part Status: Active; Price: 0.10; Series: SMBJ, TRANSIL™; Supplier 1: DigiKey; Supplier Part Number 1: 497-3144-1-ND; Supplier Device Package: SMB (DO-214AA); Voltage - Reverse Standoff (Typ): 5V
footprint DO214AA SMB
pins: 1, 2

## SMBJ5.0ATR
designator D?
TVS DIODE 5V 9.2V SMB; Manufacturer: SMC Diode Solutions; Current - Peak Pulse (10/1000µs): 65.2A; Power Line Protection: No; Power - Peak Pulse: 600W; Type: Zener; Unidirectional Channels: 1; Voltage - Breakdown (Min): 6.4V; Part Number: SMBJ5.0ATR; Applications: General Purpose; ComponentLink1Description: Datasheet; ComponentLink1URL: http://www.smc-diodes.com/propdf/SMBJ%20SERIES%20N0193%20REV.D.pdf; ComponentLink2Description: DigiKey Link; ComponentLink2URL: http://digikey.com/product-detail/en/smc-diode-solutions/SMBJ5.0ATR/1655-1634-1-ND/6023079; LastUpdated: 9/2/2020 1:19:46 AM; Lifecycle Status: Active; Minimum Order: 1; Mounting Type: Surface Mount; Operating Temperature: -55°C ~ 150°C (TJ); Package / Case: DO-214AA, SMB; Packaging: TapeAndReel; PartId: 10875; Part Status: Active; Price: 0.10; Series: SMBJ; Supplier 1: DigiKey; Supplier Part Number 1: 1655-1634-1-ND; Supplier Device Package: SMB (DO-214AA); Voltage - Clamping (Max) @ Ipp: 9.2V; Voltage - Reverse Standoff (Typ): 5V
footprint DO214AA SMB
pins: 1, 2

## SMBJ5.0CA
designator D?
TVS DIODE 5V 9.2V SMB; Manufacturer: AVX Corporation; Bidirectional Channels: 1; Current - Peak Pulse (10/1000µs): 65.22A; Power Line Protection: No; Power - Peak Pulse: 600W; Type: Zener; Voltage - Breakdown (Min): 6.4V; Part Number: SMBJ5.0CA; Applications: General Purpose; ComponentLink1Description: Datasheet; ComponentLink1URL: //media.digikey.com/pdf/Data%20Sheets/AVX%20PDFs/Transient%20Suppression%20Diodes.pdf; ComponentLink2Description: DigiKey Link; ComponentLink2URL: http://digikey.com/product-detail/en/avx-corporation/SMBJ5.0CA/478-7071-1-ND/3340351; LastUpdated: 9/2/2020 1:28:17 AM; Lifecycle Status: Active; Minimum Order: 1; Mounting Type: Surface Mount; Operating Temperature: -55°C ~ 150°C (TJ); Package / Case: DO-214AA, SMB; Packaging: TapeAndReel; PartId: 9037; Part Status: Active; Price: 0.14; Series: -; Supplier 1: DigiKey; Supplier Part Number 1: 478-7071-1-ND; Supplier Device Package: SMB; Voltage - Clamping (Max) @ Ipp: 9.2V; Voltage - Reverse Standoff (Typ): 5V
footprint DO214AA SMB
pins: 1, 2

## SMBJ5.0CA-13-F
designator D?
TVS DIODE 5V 9.2V SMB; Manufacturer: Diodes Incorporated; Bidirectional Channels: 1; Current - Peak Pulse (10/1000µs): 65.2A; Power Line Protection: No; Power - Peak Pulse: 600W; Type: Zener; Voltage - Breakdown (Min): 6.4V; Part Number: SMBJ5.0CA-13-F; Applications: General Purpose; ComponentLink1Description: Datasheet; ComponentLink1URL: https://www.diodes.com/assets/Datasheets/ds19002.pdf; ComponentLink2Description: DigiKey Link; ComponentLink2URL: http://digikey.com/product-detail/en/diodes-incorporated/SMBJ5.0CA-13-F/SMBJ5.0CA-FDICT-ND/750045; LastUpdated: 9/2/2020 1:28:19 AM; Lifecycle Status: Active; Minimum Order: 1; Mounting Type: Surface Mount; Operating Temperature: -55°C ~ 150°C (TJ); Package / Case: DO-214AA, SMB; Packaging: TapeAndReel; PartId: 9288; Part Status: Active; Price: 0.10; Series: SMBJ; Supplier 1: DigiKey; Supplier Part Number 1: SMBJ5.0CA-FDICT-ND; Supplier Device Package: SMB; Voltage - Clamping (Max) @ Ipp: 9.2V; Voltage - Reverse Standoff (Typ): 5V
footprint DO214AA SMB
pins: 1, 2

## SMBJ5.0CA-E3/5B
designator D?
TVS DIODE 5V 9.2V DO214AA; Manufacturer: Vishay Semiconductor Diodes Division; Bidirectional Channels: 1; Current - Peak Pulse (10/1000µs): 65.2A; Power Line Protection: No; Power - Peak Pulse: 600W; Type: Zener; Voltage - Breakdown (Min): 6.4V; Part Number: SMBJ5.0CA-E3/5B; Applications: General Purpose; ComponentLink1Description: Datasheet; ComponentLink1URL: http://www.vishay.com/docs/88392/smbj.pdf; ComponentLink2Description: DigiKey Link; ComponentLink2URL: http://digikey.com/product-detail/en/vishay-semiconductor-diodes-division/SMBJ5.0CA-E3-5B/SMBJ5.0CA-E3-5BGICT-ND/4754446; LastUpdated: 9/2/2020 1:28:20 AM; Lifecycle Status: Active; Minimum Order: 1; Mounting Type: Surface Mount; Operating Temperature: -55°C ~ 150°C (TJ); Package / Case: DO-214AA, SMB; Packaging: TapeAndReel; PartId: 9433; Part Status: Active; Price: 0.12; Series: TransZorb®; Supplier 1: DigiKey; Supplier Part Number 1: SMBJ5.0CA-E3/5BGICT-ND; Supplier Device Package: DO-214AA (SMBJ); Voltage - Clamping (Max) @ Ipp: 9.2V; Voltage - Reverse Standoff (Typ): 5V
footprint DO214AA SMB
pins: 1, 2

## SMBJ5.0CA-E3/52
designator D?
TVS DIODE 5V 9.2V DO214AA; Manufacturer: Vishay Semiconductor Diodes Division; Bidirectional Channels: 1; Current - Peak Pulse (10/1000µs): 65.2A; Power Line Protection: No; Power - Peak Pulse: 600W; Type: Zener; Voltage - Breakdown (Min): 6.4V; Part Number: SMBJ5.0CA-E3/52; Applications: General Purpose; ComponentLink1Description: Datasheet; ComponentLink1URL: http://www.vishay.com/docs/88392/smbj.pdf; ComponentLink2Description: DigiKey Link; ComponentLink2URL: http://digikey.com/product-detail/en/vishay-semiconductor-diodes-division/SMBJ5.0CA-E3-52/SMBJ5.0CA-E3-52GICT-ND/1091652; LastUpdated: 9/2/2020 1:28:21 AM; Lifecycle Status: Active; Minimum Order: 1; Mounting Type: Surface Mount; Operating Temperature: -55°C ~ 150°C (TJ); Package / Case: DO-214AA, SMB; Packaging: TapeAndReel; PartId: 9510; Part Status: Active; Price: 0.19; Series: TransZorb®; Supplier 1: DigiKey; Supplier Part Number 1: SMBJ5.0CA-E3/52GICT-ND; Supplier Device Package: DO-214AA (SMBJ); Voltage - Clamping (Max) @ Ipp: 9.2V; Voltage - Reverse Standoff (Typ): 5V
footprint DO214AA SMB
pins: 1, 2

## SMBJ5.0CA-HR
designator D?
TVS DIODE 5V 9.2V DO214AA; Manufacturer: Littelfuse Inc.; Bidirectional Channels: 1; Current - Peak Pulse (10/1000µs): 65.3A; Power Line Protection: No; Power - Peak Pulse: 600W; Type: Zener; Voltage - Breakdown (Min): 6.4V; Part Number: SMBJ5.0CA-HR; Applications: General Purpose; ComponentLink1Description: Datasheet; ComponentLink1URL: https://www.littelfuse.com/~/media/electronics/datasheets/tvs_diodes/littelfuse_tvs_diode_smbj_hr_datasheet.pdf.pdf; ComponentLink2Description: DigiKey Link; ComponentLink2URL: http://digikey.com/product-detail/en/littelfuse-inc/SMBJ5.0CA-HR/F6747CT-ND/5428751; LastUpdated: 9/2/2020 1:28:20 AM; Lifecycle Status: Active; Minimum Order: 1; Mounting Type: Surface Mount; Operating Temperature: -65°C ~ 150°C (TJ); Package / Case: DO-214AA, SMB; Packaging: TapeAndReel; PartId: 9394; Part Status: Active; Price: 5.62; Series: SMBJ-HR; Supplier 1: DigiKey; Supplier Part Number 1: F6747CT-ND; Supplier Device Package: DO-214AA (SMBJ); Voltage - Clamping (Max) @ Ipp: 9.2V; Voltage - Reverse Standoff (Typ): 5V
footprint DO214AA SMB
pins: 1, 2